# EAGLE library part BUTTONPADS (library button)
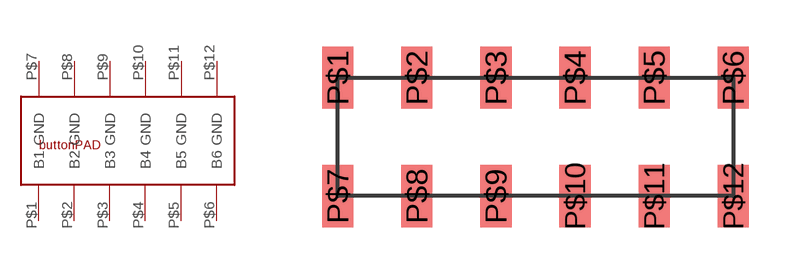
[diagram p0: symbol with the pads of BUTTON; footprint BUTTON]

Designator prefix -

## BUTTONPADS  [BUTTON]
P$1  B1
P$2  B2
P$3  B3
P$4  B4
P$5  B5
P$6  B6
P$7  GND
P$8  GND
P$9  GND
P$10  GND
P$11  GND
P$12  GND

## Footprint BUTTON (pad centres in mm)
smd 1 x 2: P$1 -6.35,2.54; P$2 -3.81,2.54; P$3 -1.27,2.54; P$4 1.27,2.54; P$5 3.81,2.54; P$6 6.35,2.54; P$7 -6.35,-1.27; P$8 -3.81,-1.27; P$9 -1.27,-1.27; P$10 1.27,-1.27; P$11 3.81,-1.27; P$12 6.35,-1.27